# Altium schematic symbol library S2B-ZRLFSN.SchLib: 1 symbol
Pins are listed as number, name and electrical type; pins without a type are passive.

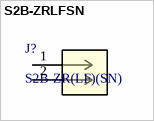
[diagram p0: symbol S2B-ZRLFSN]

## S2B-ZRLFSN
designator J?, comment S2B-ZR(LF)(SN)
Description; Manufacturer_Name: JST; Copyright: Copyright (C) 2025 Ultra Librarian. All rights reserved.; Manufacturer_Part_Number: S2B-ZR(LF)(SN); RefDes: RefDes; Type: Type
footprint CONN_S2B-ZR_JST
pins: 1, 2